# Altium integrated library Analog Devices Data Converters Digital-to-Analog Converters.IntLib: 2231 symbols (part 102 of 181)
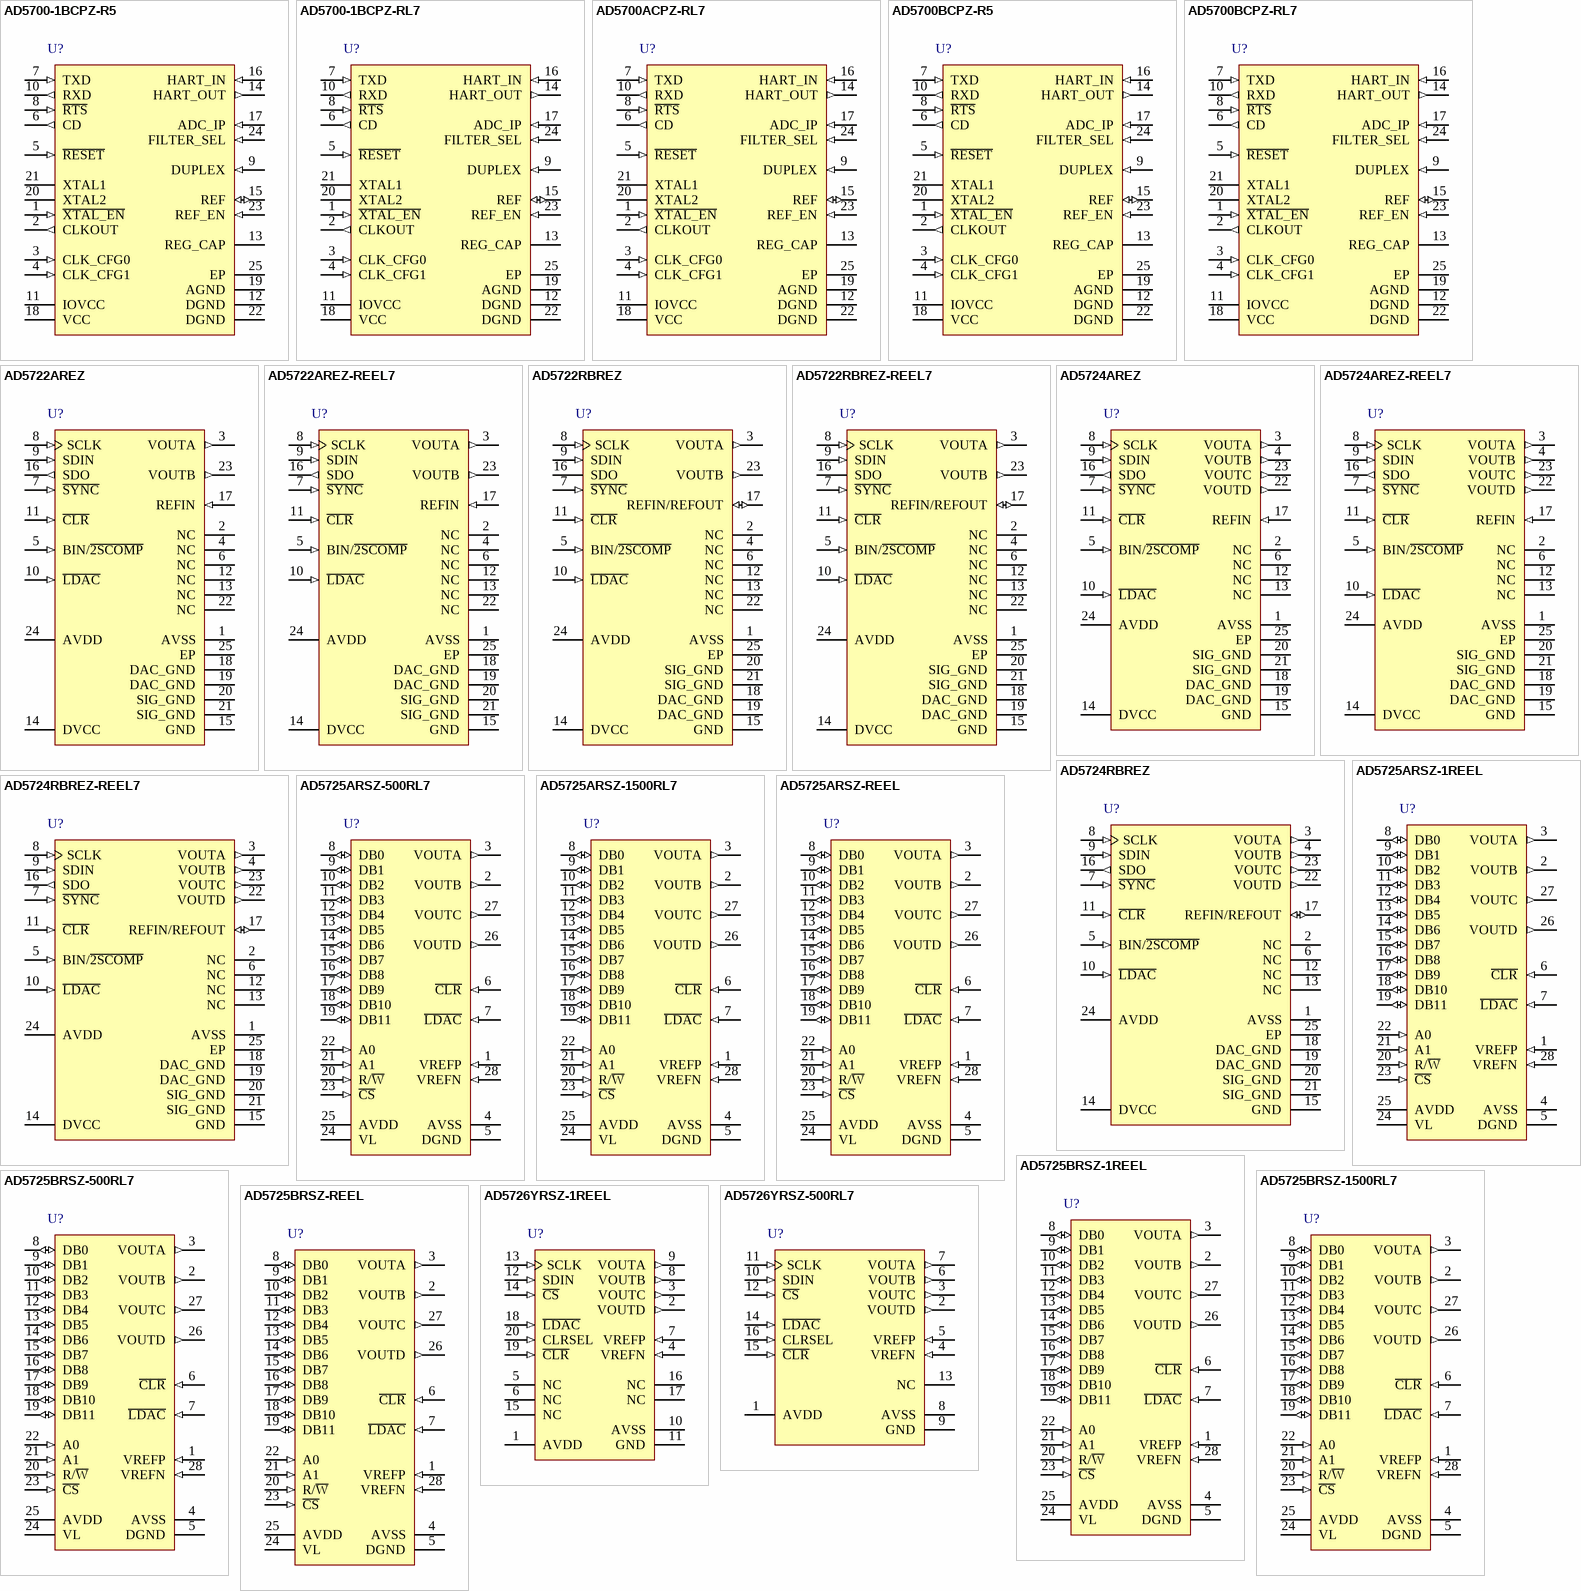
[diagram p215: symbols AD5700-1BCPZ-R5 to AD5726YRSZ-500RL7]

## AD5722AREZ-REEL7
designator U?
Dual 12-Bit Voltage Output Digital-to-Analog Converter with Serial Interface, -40 to +85 degC, RE-24, Pb-Free, Reel; Generic Part Number: AD5722; Manufacturer: Analog Devices; PartNumber: AD5722AREZ-REEL7; # DAC Outputs: 2; Max V+: 16.5V; Op Pwr Diss: 190mW; Resolution (Bits): 12; Settling Time: 10µs; Single Supply: Yes; DatasheetVersion: Rev.D; PackageVersion: 050806-A; PackageReference: RE-24; PackageDescription: 24-Lead Thin Shrink Small Outline Package, Exposed Pad [TSSOP_EP]; Supplier 1: Digi-Key; Supplier Part Number 1: AD5722AREZ-REEL7-ND; Supplier 2: Mouser; Supplier Part Number 2: 584-AD5722AREZ-R7; Packing: Reel; RoHS: Y; Mounting Technology: Surface Mount; Code_JEDEC: MO-153-ADT; ComponentLink1Description: Manufacturer URL; ComponentLink1URL: http://www.analog.com/en/index.html; ComponentLink2Description: Datasheet; ComponentLink2URL: http://www.analog.com/static/imported-files/data_sheets/AD5722_5732_5752.pdf; ComponentLink3Description: Package Specification; ComponentLink3URL: http://www.analog.com/static/imported-files/packages/PKG_PDF/TSSOP_EP(RE)/RE_24.pdf; ComponentLink4Description: Product URL; ComponentLink4URL: http://www.analog.com/en/digital-to-analog-converters/da-converters/ad5722/products/product.html; ComponentLink5Description: Reference Design URL; ComponentLink5URL: http://www.analog.com/en/digital-to-analog-converters/da-converters/ad5722/products/product.html#prod_cross_sell
footprint RE-24_N (TSOP, 24-Leads, Body 7.8x4.4mm, Pitch 0.65mm, Thermal pad 5.02x3.25 mm, IPC Medium Density)
footprint RE-24_L (TSOP, 24-Leads, Body 7.8x4.4mm, Pitch 0.65mm, Thermal pad 5.02x3.25 mm, IPC High Density)
footprint RE-24_M (TSOP, 24-Leads, Body 7.8x4.4mm, Pitch 0.65mm, Thermal pad 5.02x3.25 mm, IPC Low Density)
pins: 1 AVSS (power) "Negative Analog Supply. Voltage ranges from -4.5 V to -16.5 V. This pin can be connected to 0 V if output ranges are unipolar.", 2 NC "Do not connect to these pins.", 3 VOUTA (out) "Analog Output Voltage of DAC A. The output amplifier is capable of directly driving a 2 k ohm, 4000 pF load.", 4 NC "Do not connect to these pins.", 5 BIN/~{2SCOMP} (in) "Determines the DAC coding for a bipolar output range. This pin should be hardwired to either DVCC or GND. When hardwired to DVCC, input coding is offset binary. When hardwired to GND, input coding is twos complement. (For (See Datasheet)", 6 NC "Do not connect to these pins.", 7 ~{SYNC} (in) "Active Low Input. This is the frame synchronization signal for the serial interface. While S\Y\N\C\ is low, data is transferred on the falling edge of SCLK. Data is latched on the rising edge of S\Y\N\C\.", 8 SCLK (in) "Serial Clock Input. Data is clocked into the shift register on the falling edge of SCLK. This operates at clock speeds up to 30 MHz.", 9 SDIN (in) "Serial Data Input. Data must be valid on the falling edge of SCLK.", 10 ~{LDAC} (in) "Load DAC, Logic Input. This is used to update the DAC registers and consequently, the analog outputs. When this pin is tied permanently low, the addressed DAC register is updated on the rising edge of S\Y\N\C\. If L\D\A\C\ (See Datasheet)", 11 ~{CLR} (in) "Active Low Input. Asserting this pin sets the DAC registers to zero-scale code or midscale code (user-selectable).", 12 NC "Do not connect to these pins.", 13 NC "Do not connect to these pins.", 14 DVCC (power) "Digital Supply. Voltage ranges from 2.7 V to 5.5 V.", 15 GND (power) "Ground Reference.", 16 SDO (out) "Serial Data Output. Used to clock data from the serial register in daisy-chain or readback mode. Data is clocked out on the rising edge of SCLK and is valid on the falling edge of SCLK.", 17 REFIN (in) "External Reference Voltage Input. Reference input range is 2 V to 3 V. REFIN = 2.5 V for specified performance.", 18 DAC_GND (power) "Ground Reference for the Four Digital-to-Analog Converters.", 19 DAC_GND (power) "Ground Reference for the Four Digital-to-Analog Converters.", 20 SIG_GND (power) "Ground Reference for the Four Output Amplifiers.", 21 SIG_GND (power) "Ground Reference for the Four Output Amplifiers.", 22 NC "Do not connect to these pins.", 23 VOUTB (out) "Analog Output Voltage of DAC C. The output amplifier is capable of directly driving a 2 k ohm, 4000 pF load.", 24 AVDD (power) "Positive Analog Supply. Voltage ranges from 4.5 V to 16.5 V.", 25 EP "This exposed paddle should be connected to the potential of the AVSS pin, or alternatively, it can be left electrically unconnected. It is recommended that the paddle be thermally connected to a copper plane for enhanced (See Datasheet)"

## AD5722RBREZ
designator U?
Dual 12-Bit Voltage Output Digital-to-Analog Converter with Serial Interface, -40 to +85 degC, RE-24, Pb-Free, Tube; Generic Part Number: AD5722R; Manufacturer: Analog Devices; PartNumber: AD5722RBREZ; # DAC Outputs: 2; Max V+: 16.5V; Op Pwr Diss: 190mW; Resolution (Bits): 12; Settling Time: 7.5µs; Single Supply: Yes; DatasheetVersion: Rev.D; PackageVersion: 050806-A; PackageReference: RE-24; PackageDescription: 24-Lead Thin Shrink Small Outline Package, Exposed Pad [TSSOP_EP]; Supplier 1: Digi-Key; Supplier Part Number 1: AD5722RBREZ-ND; Supplier 2: Farnell; Supplier Part Number 2: 2312755; Supplier 3: Newark; Supplier Part Number 3: 34P3164; Supplier 4: Mouser; Supplier Part Number 4: 584-AD5722RBREZ; Packing: Tube; RoHS: Y; Mounting Technology: Surface Mount; Code_JEDEC: MO-153-ADT; ComponentLink1Description: Manufacturer URL; ComponentLink1URL: http://www.analog.com/en/index.html; ComponentLink2Description: Datasheet; ComponentLink2URL: http://www.analog.com/static/imported-files/data_sheets/AD5722R_5732R_5752R.pdf; ComponentLink3Description: Package Specification; ComponentLink3URL: http://www.analog.com/static/imported-files/packages/PKG_PDF/TSSOP_EP(RE)/RE_24.pdf; ComponentLink4Description: Product URL; ComponentLink4URL: http://www.analog.com/en/digital-to-analog-converters/da-converters/ad5722r/products/product.html; ComponentLink5Description: Reference Design URL; ComponentLink5URL: http://www.analog.com/en/digital-to-analog-converters/da-converters/ad5722r/products/product.html#prod_cross_sell
footprint RE-24_N (TSOP, 24-Leads, Body 7.8x4.4mm, Pitch 0.65mm, Thermal pad 5.02x3.25 mm, IPC Medium Density)
footprint RE-24_L (TSOP, 24-Leads, Body 7.8x4.4mm, Pitch 0.65mm, Thermal pad 5.02x3.25 mm, IPC High Density)
footprint RE-24_M (TSOP, 24-Leads, Body 7.8x4.4mm, Pitch 0.65mm, Thermal pad 5.02x3.25 mm, IPC Low Density)
pins: 1 AVSS (power) "Negative Analog Supply. Voltage ranges from -4.5 V to -16.5 V. This pin can be connected to 0 V if output ranges are unipolar.", 2 NC "Do not connect to these pins.", 3 VOUTA (out) "Analog Output Voltage of DAC A. The output amplifier is capable of directly driving a 2 kohm, 4000 pF load.", 4 NC "Do not connect to these pins.", 5 BIN/~{2SCOMP} (in) "Determines the DAC coding for a bipolar output range. This pin should be hardwired to either DVCC or GND. When hardwired to DVCC, input coding is offset binary. When hardwired to GND, input coding is twos complement. (For (See Datasheet)", 6 NC "Do not connect to these pins.", 7 ~{SYNC} (in) "Active Low Input. This is the frame S\Y\N\C\hronization signal for the serial interface. While S\Y\N\C\ is low, data is transferred on the falling edge of SCLK. Data is latched on the rising edge of S\Y\N\C\.", 8 SCLK (in) "Serial Clock Input. Data is clocked into the shift register on the falling edge of SCLK. This operates at clock speeds up to 30 MHz.", 9 SDIN (in) "Serial Data Input. Data must be valid on the falling edge of SCLK.", 10 ~{LDAC} (in) "Load DAC, Logic Input. This is used to update the DAC registers and, consequently, the analog output. When this pin is tied permanently low, the addressed DAC register is updated on the rising edge of S\Y\N\C\. If L\D\A\C\ (See Datasheet)", 11 ~{CLR} (in) "Active Low Input. Asserting this pin sets the DAC registers to zero-scale code or midscale code (user selectable).", 12 NC "Do not connect to these pins.", 13 NC "Do not connect to these pins.", 14 DVCC (power) "Digital Supply. Voltage ranges from 2.7 V to 5.5 V.", 15 GND (power) "Ground Reference.", 16 SDO (hiz) "Serial Data Output. Used to clock data from the serial register in daisy-chain or readback mode. Data is clocked out on the rising edge of SCLK and is valid on the falling edge of SCLK.", 17 REFIN/REFOUT (io) "External Reference Voltage Input and Internal Reference Voltage Output. Reference input range is 2 V to 3 V. REFIN = 2.5 V for specified performance. REFOUT = 2.5 V +/- 2 mV.", 18 DAC_GND (power) "Ground Reference for the Four Digital-to-Analog Converters.", 19 DAC_GND (power) "Ground Reference for the Four Digital-to-Analog Converters.", 20 SIG_GND (power) "Ground Reference for the Four Output Amplifiers.", 21 SIG_GND (power) "Ground Reference for the Four Output Amplifiers.", 22 NC "Do not connect to these pins.", 23 VOUTB (out) "Analog Output Voltage of DAC B. The output amplifier is capable of directly driving a 2 kohm, 4000 pF load.", 24 AVDD (power) "Positive Analog Supply. Voltage ranges from 4.5 V to 16.5 V.", 25 EP (power) "This exposed paddle should be connected to the potential of the AVSS pin, or alternatively, it can be left electrically unconnected. It is recommended that the paddle be thermally connected to a copper plane for enhanced (See Datasheet)"

## AD5722RBREZ-REEL7
designator U?
Dual 12-Bit Voltage Output Digital-to-Analog Converter with Serial Interface, -40 to +85 degC, RE-24, Pb-Free, Reel; Generic Part Number: AD5722R; Manufacturer: Analog Devices; PartNumber: AD5722RBREZ-REEL7; # DAC Outputs: 2; Max V+: 16.5V; Op Pwr Diss: 190mW; Resolution (Bits): 12; Settling Time: 7.5µs; Single Supply: Yes; DatasheetVersion: Rev.D; PackageVersion: 050806-A; PackageReference: RE-24; PackageDescription: 24-Lead Thin Shrink Small Outline Package, Exposed Pad [TSSOP_EP]; Supplier 1: Digi-Key; Supplier Part Number 1: AD5722RBREZ-REEL7-ND; Supplier 2: Mouser; Supplier Part Number 2: 584-AD5722RBREZ-R7; Packing: Reel; RoHS: Y; Mounting Technology: Surface Mount; Code_JEDEC: MO-153-ADT; ComponentLink1Description: Manufacturer URL; ComponentLink1URL: http://www.analog.com/en/index.html; ComponentLink2Description: Datasheet; ComponentLink2URL: http://www.analog.com/static/imported-files/data_sheets/AD5722R_5732R_5752R.pdf; ComponentLink3Description: Package Specification; ComponentLink3URL: http://www.analog.com/static/imported-files/packages/PKG_PDF/TSSOP_EP(RE)/RE_24.pdf; ComponentLink4Description: Product URL; ComponentLink4URL: http://www.analog.com/en/digital-to-analog-converters/da-converters/ad5722r/products/product.html; ComponentLink5Description: Reference Design URL; ComponentLink5URL: http://www.analog.com/en/digital-to-analog-converters/da-converters/ad5722r/products/product.html#prod_cross_sell
footprint RE-24_N (TSOP, 24-Leads, Body 7.8x4.4mm, Pitch 0.65mm, Thermal pad 5.02x3.25 mm, IPC Medium Density)
footprint RE-24_L (TSOP, 24-Leads, Body 7.8x4.4mm, Pitch 0.65mm, Thermal pad 5.02x3.25 mm, IPC High Density)
footprint RE-24_M (TSOP, 24-Leads, Body 7.8x4.4mm, Pitch 0.65mm, Thermal pad 5.02x3.25 mm, IPC Low Density)
pins: 1 AVSS (power) "Negative Analog Supply. Voltage ranges from -4.5 V to -16.5 V. This pin can be connected to 0 V if output ranges are unipolar.", 2 NC "Do not connect to these pins.", 3 VOUTA (out) "Analog Output Voltage of DAC A. The output amplifier is capable of directly driving a 2 kohm, 4000 pF load.", 4 NC "Do not connect to these pins.", 5 BIN/~{2SCOMP} (in) "Determines the DAC coding for a bipolar output range. This pin should be hardwired to either DVCC or GND. When hardwired to DVCC, input coding is offset binary. When hardwired to GND, input coding is twos complement. (For (See Datasheet)", 6 NC "Do not connect to these pins.", 7 ~{SYNC} (in) "Active Low Input. This is the frame S\Y\N\C\hronization signal for the serial interface. While S\Y\N\C\ is low, data is transferred on the falling edge of SCLK. Data is latched on the rising edge of S\Y\N\C\.", 8 SCLK (in) "Serial Clock Input. Data is clocked into the shift register on the falling edge of SCLK. This operates at clock speeds up to 30 MHz.", 9 SDIN (in) "Serial Data Input. Data must be valid on the falling edge of SCLK.", 10 ~{LDAC} (in) "Load DAC, Logic Input. This is used to update the DAC registers and, consequently, the analog output. When this pin is tied permanently low, the addressed DAC register is updated on the rising edge of S\Y\N\C\. If L\D\A\C\ (See Datasheet)", 11 ~{CLR} (in) "Active Low Input. Asserting this pin sets the DAC registers to zero-scale code or midscale code (user selectable).", 12 NC "Do not connect to these pins.", 13 NC "Do not connect to these pins.", 14 DVCC (power) "Digital Supply. Voltage ranges from 2.7 V to 5.5 V.", 15 GND (power) "Ground Reference.", 16 SDO (hiz) "Serial Data Output. Used to clock data from the serial register in daisy-chain or readback mode. Data is clocked out on the rising edge of SCLK and is valid on the falling edge of SCLK.", 17 REFIN/REFOUT (io) "External Reference Voltage Input and Internal Reference Voltage Output. Reference input range is 2 V to 3 V. REFIN = 2.5 V for specified performance. REFOUT = 2.5 V +/- 2 mV.", 18 DAC_GND (power) "Ground Reference for the Four Digital-to-Analog Converters.", 19 DAC_GND (power) "Ground Reference for the Four Digital-to-Analog Converters.", 20 SIG_GND (power) "Ground Reference for the Four Output Amplifiers.", 21 SIG_GND (power) "Ground Reference for the Four Output Amplifiers.", 22 NC "Do not connect to these pins.", 23 VOUTB (out) "Analog Output Voltage of DAC B. The output amplifier is capable of directly driving a 2 kohm, 4000 pF load.", 24 AVDD (power) "Positive Analog Supply. Voltage ranges from 4.5 V to 16.5 V.", 25 EP (power) "This exposed paddle should be connected to the potential of the AVSS pin, or alternatively, it can be left electrically unconnected. It is recommended that the paddle be thermally connected to a copper plane for enhanced (See Datasheet)"

## AD5724AREZ
designator U?
Quad 12-Bit Unipolar / Bipolar Voltage Output Digital-to-Analog Converter with Serial Interface, -40 to +85 degC, RE-24, Pb-Free, Tube; Generic Part Number: AD5724; Manufacturer: Analog Devices; PartNumber: AD5724AREZ; # DAC Outputs: 4; Max V+: 16.5V; Op Pwr Diss: 310mW; Resolution (Bits): 12; Settling Time: 8.5µs; Single Supply: Yes; DatasheetVersion: Rev.D; PackageVersion: 050806-A; PackageReference: RE-24; PackageDescription: 24-Lead Thin Shrink Small Outline Package, Exposed Pad [TSSOP_EP]; Supplier 1: Digi-Key; Supplier Part Number 1: AD5724AREZ-ND; Supplier 2: Farnell; Supplier Part Number 2: 2305678; Supplier 3: Newark; Supplier Part Number 3: 07P8934; Supplier 4: Mouser; Supplier Part Number 4: 584-AD5724AREZ; Packing: Tube; RoHS: Y; Mounting Technology: Surface Mount; Code_JEDEC: MO-153-ADT; ComponentLink1Description: Manufacturer URL; ComponentLink1URL: http://www.analog.com/en/index.html; ComponentLink2Description: Datasheet; ComponentLink2URL: http://www.analog.com/static/imported-files/data_sheets/AD5724_5734_5754.pdf; ComponentLink3Description: Package Specification; ComponentLink3URL: http://www.analog.com/static/imported-files/packages/PKG_PDF/TSSOP_EP(RE)/RE_24.pdf; ComponentLink4Description: Product URL; ComponentLink4URL: http://www.analog.com/en/digital-to-analog-converters/da-converters/ad5724/products/product.html; ComponentLink5Description: Reference Design URL; ComponentLink5URL: http://www.analog.com/en/digital-to-analog-converters/da-converters/ad5724/products/product.html#prod_cross_sell
footprint RE-24_N (TSOP, 24-Leads, Body 7.8x4.4mm, Pitch 0.65mm, Thermal pad 5.02x3.25 mm, IPC Medium Density)
footprint RE-24_L (TSOP, 24-Leads, Body 7.8x4.4mm, Pitch 0.65mm, Thermal pad 5.02x3.25 mm, IPC High Density)
footprint RE-24_M (TSOP, 24-Leads, Body 7.8x4.4mm, Pitch 0.65mm, Thermal pad 5.02x3.25 mm, IPC Low Density)
pins: 1 AVSS (power) "Negative Analog Supply. Voltage ranges from -4.5 V to -16.5 V. This pin can be connected to 0 V if output ranges are unipolar.", 2 NC "Do not connect to these pins.", 3 VOUTA (out) "Analog Output Voltage of DAC A. The output amplifier is capable of directly driving a 2 kohm, 4000 pF load.", 4 VOUTB (out) "Analog Output Voltage of DAC B. The output amplifier is capable of directly driving a 2 kohm, 4000 pF load.", 5 BIN/~{2SCOMP} (in) "Determines the DAC coding for a bipolar output range. This pin should be hardwired to either DVCC or GND. When hardwired to DVCC, input coding is offset binary. When hardwired to GND, input coding is twos complement. (For (See Datasheet)", 6 NC "Do not connect to these pins.", 7 ~{SYNC} (in) "Active Low Input. This is the frame synchronization signal for the serial interface. While S\Y\N\C\ is low, data is transferred on the falling edge of SCLK. Data is latched on the rising edge of S\Y\N\C\.", 8 SCLK (in) "Serial Clock Input. Data is clocked into the shift register on the falling edge of SCLK. This operates at clock speeds up to 30 MHz.", 9 SDIN (in) "Serial Data Input. Data must be valid on the falling edge of SCLK.", 10 ~{LDAC} (in) "Load DAC, Logic Input. This is used to update the DAC registers and consequently, the analog outputs. When this pin is tied permanently low, the addressed DAC register is updated on the rising edge of S\Y\N\C\. If L\D\A\C\ (See Datasheet)", 11 ~{CLR} (in) "Active Low Input. Asserting this pin sets the DAC registers to zero-scale code or midscale code (user-selectable).", 12 NC "Do not connect to these pins.", 13 NC "Do not connect to these pins.", 14 DVCC (power) "Digital Supply. Voltage ranges from 2.7 V to 5.5 V.", 15 GND (power) "Ground Reference.", 16 SDO (out) "Serial Data Output. Used to clock data from the serial register in daisy-chain or readback mode. Data is clocked out on the rising edge of SCLK and is valid on the falling edge of SCLK.", 17 REFIN (in) "External Reference Voltage Input. Reference input range is 2 V to 3 V. REFIN = 2.5 V for specified performance.", 18 DAC_GND (power) "Ground Reference for the Four Digital-to-Analog Converters.", 19 DAC_GND (power) "Ground Reference for the Four Digital-to-Analog Converters.", 20 SIG_GND (power) "Ground Reference for the Four Output Amplifiers.", 21 SIG_GND (power) "Ground Reference for the Four Output Amplifiers.", 22 VOUTD (out) "Analog Output Voltage of DAC D. The output amplifier is capable of directly driving a 2 kohm, 4000 pF load.", 23 VOUTC (out) "Analog Output Voltage of DAC C. The output amplifier is capable of directly driving a 2 kohm, 4000 pF load.", 24 AVDD (power) "Positive Analog Supply. Voltage ranges from 4.5 V to 16.5 V.", 25 EP (power) "This exposed paddle should be connected to the potential of the AVSS pin, or alternatively, it can be left electrically unconnected. It is recommended that the paddle be thermally connected to a copper plane for enhanced (See Datasheet)"

## AD5724AREZ-REEL7
designator U?
Quad 12-Bit Unipolar / Bipolar Voltage Output Digital-to-Analog Converter with Serial Interface, -40 to +85 degC, RE-24, Pb-Free, Reel; Generic Part Number: AD5724; Manufacturer: Analog Devices; PartNumber: AD5724AREZ-REEL7; # DAC Outputs: 4; Max V+: 16.5V; Op Pwr Diss: 310mW; Resolution (Bits): 12; Settling Time: 8.5µs; Single Supply: Yes; DatasheetVersion: Rev.D; PackageVersion: 050806-A; PackageReference: RE-24; PackageDescription: 24-Lead Thin Shrink Small Outline Package, Exposed Pad [TSSOP_EP]; Supplier 1: Digi-Key; Supplier Part Number 1: AD5724AREZ-REEL7-ND; Supplier 2: Newark; Supplier Part Number 2: 07P8935; Supplier 3: Mouser; Supplier Part Number 3: 584-AD5724AREZ-R7; Packing: Reel; RoHS: Y; Mounting Technology: Surface Mount; Code_JEDEC: MO-153-ADT; ComponentLink1Description: Manufacturer URL; ComponentLink1URL: http://www.analog.com/en/index.html; ComponentLink2Description: Datasheet; ComponentLink2URL: http://www.analog.com/static/imported-files/data_sheets/AD5724_5734_5754.pdf; ComponentLink3Description: Package Specification; ComponentLink3URL: http://www.analog.com/static/imported-files/packages/PKG_PDF/TSSOP_EP(RE)/RE_24.pdf; ComponentLink4Description: Product URL; ComponentLink4URL: http://www.analog.com/en/digital-to-analog-converters/da-converters/ad5724/products/product.html; ComponentLink5Description: Reference Design URL; ComponentLink5URL: http://www.analog.com/en/digital-to-analog-converters/da-converters/ad5724/products/product.html#prod_cross_sell
footprint RE-24_N (TSOP, 24-Leads, Body 7.8x4.4mm, Pitch 0.65mm, Thermal pad 5.02x3.25 mm, IPC Medium Density)
footprint RE-24_L (TSOP, 24-Leads, Body 7.8x4.4mm, Pitch 0.65mm, Thermal pad 5.02x3.25 mm, IPC High Density)
footprint RE-24_M (TSOP, 24-Leads, Body 7.8x4.4mm, Pitch 0.65mm, Thermal pad 5.02x3.25 mm, IPC Low Density)
pins: 1 AVSS (power) "Negative Analog Supply. Voltage ranges from -4.5 V to -16.5 V. This pin can be connected to 0 V if output ranges are unipolar.", 2 NC "Do not connect to these pins.", 3 VOUTA (out) "Analog Output Voltage of DAC A. The output amplifier is capable of directly driving a 2 kohm, 4000 pF load.", 4 VOUTB (out) "Analog Output Voltage of DAC B. The output amplifier is capable of directly driving a 2 kohm, 4000 pF load.", 5 BIN/~{2SCOMP} (in) "Determines the DAC coding for a bipolar output range. This pin should be hardwired to either DVCC or GND. When hardwired to DVCC, input coding is offset binary. When hardwired to GND, input coding is twos complement. (For (See Datasheet)", 6 NC "Do not connect to these pins.", 7 ~{SYNC} (in) "Active Low Input. This is the frame synchronization signal for the serial interface. While S\Y\N\C\ is low, data is transferred on the falling edge of SCLK. Data is latched on the rising edge of S\Y\N\C\.", 8 SCLK (in) "Serial Clock Input. Data is clocked into the shift register on the falling edge of SCLK. This operates at clock speeds up to 30 MHz.", 9 SDIN (in) "Serial Data Input. Data must be valid on the falling edge of SCLK.", 10 ~{LDAC} (in) "Load DAC, Logic Input. This is used to update the DAC registers and consequently, the analog outputs. When this pin is tied permanently low, the addressed DAC register is updated on the rising edge of S\Y\N\C\. If L\D\A\C\ (See Datasheet)", 11 ~{CLR} (in) "Active Low Input. Asserting this pin sets the DAC registers to zero-scale code or midscale code (user-selectable).", 12 NC "Do not connect to these pins.", 13 NC "Do not connect to these pins.", 14 DVCC (power) "Digital Supply. Voltage ranges from 2.7 V to 5.5 V.", 15 GND (power) "Ground Reference.", 16 SDO (out) "Serial Data Output. Used to clock data from the serial register in daisy-chain or readback mode. Data is clocked out on the rising edge of SCLK and is valid on the falling edge of SCLK.", 17 REFIN (in) "External Reference Voltage Input. Reference input range is 2 V to 3 V. REFIN = 2.5 V for specified performance.", 18 DAC_GND (power) "Ground Reference for the Four Digital-to-Analog Converters.", 19 DAC_GND (power) "Ground Reference for the Four Digital-to-Analog Converters.", 20 SIG_GND (power) "Ground Reference for the Four Output Amplifiers.", 21 SIG_GND (power) "Ground Reference for the Four Output Amplifiers.", 22 VOUTD (out) "Analog Output Voltage of DAC D. The output amplifier is capable of directly driving a 2 kohm, 4000 pF load.", 23 VOUTC (out) "Analog Output Voltage of DAC C. The output amplifier is capable of directly driving a 2 kohm, 4000 pF load.", 24 AVDD (power) "Positive Analog Supply. Voltage ranges from 4.5 V to 16.5 V.", 25 EP (power) "This exposed paddle should be connected to the potential of the AVSS pin, or alternatively, it can be left electrically unconnected. It is recommended that the paddle be thermally connected to a copper plane for enhanced (See Datasheet)"

## AD5724RBREZ
designator U?
Quad 12-Bit Unipolar / Bipolar Voltage Output Digital-to-Analog Converter with Serial Interface, -40 to +85 degC, RE-24, Pb-Free, Tube; Generic Part Number: AD5724R; Manufacturer: Analog Devices; PartNumber: AD5724RBREZ; # DAC Outputs: 4; Max V+: 16.5V; Op Pwr Diss: 310mW; Resolution (Bits): 12; Settling Time: 10µs; Single Supply: Yes; DatasheetVersion: Rev.E; PackageVersion: 050806-A; PackageReference: RE-24; PackageDescription: 24-Lead Thin Shrink Small Outline Package, Exposed Pad [TSSOP_EP]; Supplier 1: Digi-Key; Supplier Part Number 1: AD5724RBREZ-ND; Supplier 2: Farnell; Supplier Part Number 2: 1786047; Supplier 3: Newark; Supplier Part Number 3: 05R6579; Supplier 4: Mouser; Supplier Part Number 4: 584-AD5724RBREZ; Packing: Tube; RoHS: Y; Mounting Technology: Surface Mount; Code_JEDEC: MO-153-ADT; ComponentLink1Description: Manufacturer URL; ComponentLink1URL: http://www.analog.com/en/index.html; ComponentLink2Description: Datasheet; ComponentLink2URL: http://www.analog.com/static/imported-files/data_sheets/AD5724R_5734R_5754R.pdf; ComponentLink3Description: Package Specification; ComponentLink3URL: http://www.analog.com/static/imported-files/packages/PKG_PDF/TSSOP_EP(RE)/RE_24.pdf; ComponentLink4Description: Product URL; ComponentLink4URL: http://www.analog.com/en/digital-to-analog-converters/da-converters/ad5724r/products/product.html; ComponentLink5Description: Reference Design URL; ComponentLink5URL: http://www.analog.com/en/digital-to-analog-converters/da-converters/ad5724r/products/product.html#prod_cross_sell
footprint RE-24_N (TSOP, 24-Leads, Body 7.8x4.4mm, Pitch 0.65mm, Thermal pad 5.02x3.25 mm, IPC Medium Density)
footprint RE-24_L (TSOP, 24-Leads, Body 7.8x4.4mm, Pitch 0.65mm, Thermal pad 5.02x3.25 mm, IPC High Density)
footprint RE-24_M (TSOP, 24-Leads, Body 7.8x4.4mm, Pitch 0.65mm, Thermal pad 5.02x3.25 mm, IPC Low Density)
pins: 1 AVSS (power) "Negative Analog Supply Pin. Voltage range is from -4.5 V to -16.5 V. This pin can be connected to 0 V if output ranges are unipolar.", 2 NC "No Connect. Do not connect to these pins.", 3 VOUTA (out) "Analog Output Voltage of DAC A. The output amplifier is capable of directly driving a 2 kohm, 4000 pF load.", 4 VOUTB (out) "Analog Output Voltage of DAC B. The output amplifier is capable of directly driving a 2 kohm, 4000 pF load.", 5 BIN/~{2SCOMP} (in) "This pin determines the DAC coding for a bipolar output range. This pin should be hardwired to either DVCC or GND. When hardwired to DVCC, input coding is offset binary. When hardwired to GND, input coding is twos complement.(See Datasheet)", 6 NC "No Connect. Do not connect to these pins.", 7 ~{SYNC} (in) "Active Low Input. This is the frame S\Y\N\C\hronization signal for the serial interface. While S\Y\N\C\ is low, data is transferred on the falling edge of SCLK. Data is latched on the rising edge of S\Y\N\C\.", 8 SCLK (in) "Serial Clock Input. Data is clocked into the shift register on the falling edge of SCLK. This operates at clock speeds up to 30 MHz.", 9 SDIN (in) "Serial Data Input. Data must be valid on the falling edge of SCLK.", 10 ~{LDAC} (in) "Load DAC, Logic Input. This is used to update the DAC registers and, consequently, the analog output. When tied permanently low, the addressed DAC register is updated on the rising edge of S\Y\N\C\. If L\D\A\C\ is held high (See Datasheet)", 11 ~{CLR} (in) "Active Low Input. Asserting this pin sets the DAC registers to zero-scale code or midscale code (user selectable).", 12 NC "No Connect. Do not connect to these pins.", 13 NC "No Connect. Do not connect to these pins.", 14 DVCC (power) "Digital Supply Pin. Voltage range is from 2.7 V to 5.5 V.", 15 GND (power) "Ground Reference Pin.", 16 SDO (out) "Serial Data Output. Used to clock data from the serial register in daisy-chain or readback mode. Data is clocked out on the rising edge of SCLK and is valid on the falling edge of SCLK.", 17 REFIN/REFOUT (io) "External Reference Voltage Input and Internal Reference Voltage Output. Reference input range is 2 V to 3 V. REFIN = 2.5 V for specified performance. REFOUT = 2.5 V +/- 2 mV 25degreesC.", 18 DAC_GND (power) "Ground reference pins for the four digital-to-analog converters.", 19 DAC_GND (power) "Ground reference pins for the four digital-to-analog converters.", 20 SIG_GND (power) "Ground reference pins for the four output amplifiers.", 21 SIG_GND (power) "Ground reference pins for the four output amplifiers.", 22 VOUTD (out) "Analog Output Voltage of DAC D. The output amplifier is capable of directly driving a 2 kohm, 4000 pF load.", 23 VOUTC (out) "Analog Output Voltage of DAC C. The output amplifier is capable of directly driving a 2 kohm, 4000 pF load.", 24 AVDD (power) "Positive Analog Supply Pin. Voltage range is from 4.5 V to 16.5 V.", 25 EP (power) "The exposed paddle should be connected to the potential of the AVSS pin or, alternatively, it can be left electrically unconnected. It is recommended that the paddle be thermally connected to a copper plane for enhanced (See Datasheet)"

## AD5724RBREZ-REEL7
designator U?
Quad 12-Bit Unipolar / Bipolar Voltage Output Digital-to-Analog Converter with Serial Interface, -40 to +85 degC, RE-24, Pb-Free, Reel; Generic Part Number: AD5724R; Manufacturer: Analog Devices; PartNumber: AD5724RBREZ-REEL7; # DAC Outputs: 4; Max V+: 16.5V; Op Pwr Diss: 310mW; Resolution (Bits): 12; Settling Time: 10µs; Single Supply: Yes; DatasheetVersion: Rev.E; PackageVersion: 050806-A; PackageReference: RE-24; PackageDescription: 24-Lead Thin Shrink Small Outline Package, Exposed Pad [TSSOP_EP]; Supplier 1: Digi-Key; Supplier Part Number 1: AD5724RBREZ-REEL7-ND; Supplier 2: Mouser; Supplier Part Number 2: 584-AD5724RBREZ-R7; Packing: Reel; RoHS: Y; Mounting Technology: Surface Mount; Code_JEDEC: MO-153-ADT; ComponentLink1Description: Manufacturer URL; ComponentLink1URL: http://www.analog.com/en/index.html; ComponentLink2Description: Datasheet; ComponentLink2URL: http://www.analog.com/static/imported-files/data_sheets/AD5724R_5734R_5754R.pdf; ComponentLink3Description: Package Specification; ComponentLink3URL: http://www.analog.com/static/imported-files/packages/PKG_PDF/TSSOP_EP(RE)/RE_24.pdf; ComponentLink4Description: Product URL; ComponentLink4URL: http://www.analog.com/en/digital-to-analog-converters/da-converters/ad5724r/products/product.html; ComponentLink5Description: Reference Design URL; ComponentLink5URL: http://www.analog.com/en/digital-to-analog-converters/da-converters/ad5724r/products/product.html#prod_cross_sell
footprint RE-24_N (TSOP, 24-Leads, Body 7.8x4.4mm, Pitch 0.65mm, Thermal pad 5.02x3.25 mm, IPC Medium Density)
footprint RE-24_L (TSOP, 24-Leads, Body 7.8x4.4mm, Pitch 0.65mm, Thermal pad 5.02x3.25 mm, IPC High Density)
footprint RE-24_M (TSOP, 24-Leads, Body 7.8x4.4mm, Pitch 0.65mm, Thermal pad 5.02x3.25 mm, IPC Low Density)
pins: 1 AVSS (power) "Negative Analog Supply Pin. Voltage range is from -4.5 V to -16.5 V. This pin can be connected to 0 V if output ranges are unipolar.", 2 NC "No Connect. Do not connect to these pins.", 3 VOUTA (out) "Analog Output Voltage of DAC A. The output amplifier is capable of directly driving a 2 kohm, 4000 pF load.", 4 VOUTB (out) "Analog Output Voltage of DAC B. The output amplifier is capable of directly driving a 2 kohm, 4000 pF load.", 5 BIN/~{2SCOMP} (in) "This pin determines the DAC coding for a bipolar output range. This pin should be hardwired to either DVCC or GND. When hardwired to DVCC, input coding is offset binary. When hardwired to GND, input coding is twos complement.(See Datasheet)", 6 NC "No Connect. Do not connect to these pins.", 7 ~{SYNC} (in) "Active Low Input. This is the frame S\Y\N\C\hronization signal for the serial interface. While S\Y\N\C\ is low, data is transferred on the falling edge of SCLK. Data is latched on the rising edge of S\Y\N\C\.", 8 SCLK (in) "Serial Clock Input. Data is clocked into the shift register on the falling edge of SCLK. This operates at clock speeds up to 30 MHz.", 9 SDIN (in) "Serial Data Input. Data must be valid on the falling edge of SCLK.", 10 ~{LDAC} (in) "Load DAC, Logic Input. This is used to update the DAC registers and, consequently, the analog output. When tied permanently low, the addressed DAC register is updated on the rising edge of S\Y\N\C\. If L\D\A\C\ is held high (See Datasheet)", 11 ~{CLR} (in) "Active Low Input. Asserting this pin sets the DAC registers to zero-scale code or midscale code (user selectable).", 12 NC "No Connect. Do not connect to these pins.", 13 NC "No Connect. Do not connect to these pins.", 14 DVCC (power) "Digital Supply Pin. Voltage range is from 2.7 V to 5.5 V.", 15 GND (power) "Ground Reference Pin.", 16 SDO (out) "Serial Data Output. Used to clock data from the serial register in daisy-chain or readback mode. Data is clocked out on the rising edge of SCLK and is valid on the falling edge of SCLK.", 17 REFIN/REFOUT (io) "External Reference Voltage Input and Internal Reference Voltage Output. Reference input range is 2 V to 3 V. REFIN = 2.5 V for specified performance. REFOUT = 2.5 V +/- 2 mV 25degreesC.", 18 DAC_GND (power) "Ground reference pins for the four digital-to-analog converters.", 19 DAC_GND (power) "Ground reference pins for the four digital-to-analog converters.", 20 SIG_GND (power) "Ground reference pins for the four output amplifiers.", 21 SIG_GND (power) "Ground reference pins for the four output amplifiers.", 22 VOUTD (out) "Analog Output Voltage of DAC D. The output amplifier is capable of directly driving a 2 kohm, 4000 pF load.", 23 VOUTC (out) "Analog Output Voltage of DAC C. The output amplifier is capable of directly driving a 2 kohm, 4000 pF load.", 24 AVDD (power) "Positive Analog Supply Pin. Voltage range is from 4.5 V to 16.5 V.", 25 EP (power) "The exposed paddle should be connected to the potential of the AVSS pin or, alternatively, it can be left electrically unconnected. It is recommended that the paddle be thermally connected to a copper plane for enhanced (See Datasheet)"

## AD5725ARSZ-1REEL
designator U?
12-Bit Voltage Output Digital-to-Analog Converter with Parallel Interface, -40 to +85 degC, RS-28, Pb-Free, Reel; Generic Part Number: AD5725; Manufacturer: Analog Devices; PartNumber: AD5725ARSZ-1REEL; # DAC Outputs: 4; Max V+: 15V; Op Pwr Diss: 270mW; Resolution (Bits): 12; Settling Time: 7µs; Single Supply: Yes; DatasheetVersion: Rev.A; PackageVersion: 060106-A; PackageReference: RS-28; PackageDescription: 28-Lead Shrink Small Outline Package [SSOP]; Supplier 1: Digi-Key; Supplier Part Number 1: AD5725ARSZ-1REELTR-ND; Supplier 2: Digi-Key; Supplier Part Number 2: AD5725ARSZ-1REELCT-ND; Supplier 3: Digi-Key; Supplier Part Number 3: AD5725ARSZ-1REELDKR-ND; Supplier 4: Mouser; Supplier Part Number 4: 584-AD5725ARSZ-1R; Packing: Reel; RoHS: Y; Mounting Technology: Surface Mount; Code_JEDEC: MO-150-AH; ComponentLink1Description: Manufacturer URL; ComponentLink1URL: http://www.analog.com/en/index.html; ComponentLink2Description: Datasheet; ComponentLink2URL: http://www.analog.com/static/imported-files/data_sheets/AD5725.pdf; ComponentLink3Description: Package Specification; ComponentLink3URL: http://www.analog.com/static/imported-files/packages/32122249223724RS_28.pdf; ComponentLink4Description: Product URL; ComponentLink4URL: http://www.analog.com/en/digital-to-analog-converters/da-converters/ad5725/products/product.html
footprint RS-28_N (SOP, 28-Leads, Body 10.2x5.3mm, Pitch 0.65mm, IPC Medium Density)
footprint RS-28_L (SOP, 28-Leads, Body 10.2x5.3mm, Pitch 0.65mm, IPC High Density)
footprint RS-28_M (SOP, 28-Leads, Body 10.2x5.3mm, Pitch 0.65mm, IPC Low Density)
pins: 1 VREFP (in) "Positive DAC Reference Input. The voltage applied to this pin defines the full-scale output voltage. Allowable range is AVDD - 2.5 V to VREFN + 2.5 V.", 2 VOUTB (out) "Buffered Analog Output Voltage of DAC B.", 3 VOUTA (out) "Buffered Analog Output Voltage of DAC A.", 4 AVSS (power) "Negative Analog Supply Pin. Voltage ranges from 0 V to -15 V.", 5 DGND (power) "Digital Ground Pin.", 6 ~{CLR} (in) "Active Low Input. Sets input registers and DAC registers to midscale (0x800) for the AD5725.", 7 ~{LDAC} (in) "Active Low Load DAC Input.", 8 DB0 (io) "Data Bit 0 (LSB).", 9 DB1 (io) "Data Bit 1.", 10 DB2 (io) "Data Bit 2.", 11 DB3 (io) "Data Bit 3.", 12 DB4 (io) "Data Bit 4.", 13 DB5 (io) "Data Bit 5.", 14 DB6 (io) "Data Bit 6.", 15 DB7 (io) "Data Bit 7.", 16 DB8 (io) "Data Bit 8.", 17 DB9 (io) "Data Bit 9.", 18 DB10 (io) "Data Bit 10.", 19 DB11 (io) "Data Bit 11 (MSB).", 20 R/~{W} (in) "Read/Write Pin. Active low to write data to DAC; Active high to read back previous data at data bit pins with VL connected to +5 V.", 21 A1 (in) "Address Bit 1.", 22 A0 (in) "Address Bit 0.", 23 ~{CS} (in) "Active Low Chip Select Pin.", 24 VL (power) "Voltage Supply for Readback Function. Can be left open circuit if not used.", 25 AVDD (power) "Positive Analog Supply Pin. Voltage ranges from +5 V to +15 V.", 26 VOUTD (out) "Buffered Analog Output Voltage of DAC D.", 27 VOUTC (out) "Buffered Analog Output Voltage of DAC C.", 28 VREFN (in) "Negative DAC Reference Input. The voltage applied to this pin defines the zero-scale output voltage. Allowable range is AVSS to VREFP - 2.5 V."

## AD5725ARSZ-500RL7
designator U?
12-Bit Voltage Output Digital-to-Analog Converter with Parallel Interface, -40 to +85 degC, RS-28, Pb-Free, Reel; Generic Part Number: AD5725; Manufacturer: Analog Devices; PartNumber: AD5725ARSZ-500RL7; # DAC Outputs: 4; Max V+: 15V; Op Pwr Diss: 270mW; Resolution (Bits): 12; Settling Time: 7µs; Single Supply: Yes; DatasheetVersion: Rev.A; PackageVersion: 060106-A; PackageReference: RS-28; PackageDescription: 28-Lead Shrink Small Outline Package [SSOP]; Supplier 1: Digi-Key; Supplier Part Number 1: AD5725ARSZ-500RL7TR-ND; Supplier 2: Digi-Key; Supplier Part Number 2: AD5725ARSZ-500RL7CT-ND; Supplier 3: Digi-Key; Supplier Part Number 3: AD5725ARSZ-500RL7DKR-ND; Supplier 4: Newark; Supplier Part Number 4: 34M5019; Supplier 5: Mouser; Supplier Part Number 5: 584-AD5725ARSZ-500R7; Packing: Reel; RoHS: Y; Mounting Technology: Surface Mount; Code_JEDEC: MO-150-AH; ComponentLink1Description: Manufacturer URL; ComponentLink1URL: http://www.analog.com/en/index.html; ComponentLink2Description: Datasheet; ComponentLink2URL: http://www.analog.com/static/imported-files/data_sheets/AD5725.pdf; ComponentLink3Description: Package Specification; ComponentLink3URL: http://www.analog.com/static/imported-files/packages/32122249223724RS_28.pdf; ComponentLink4Description: Product URL; ComponentLink4URL: http://www.analog.com/en/digital-to-analog-converters/da-converters/ad5725/products/product.html
footprint RS-28_N (SOP, 28-Leads, Body 10.2x5.3mm, Pitch 0.65mm, IPC Medium Density)
footprint RS-28_L (SOP, 28-Leads, Body 10.2x5.3mm, Pitch 0.65mm, IPC High Density)
footprint RS-28_M (SOP, 28-Leads, Body 10.2x5.3mm, Pitch 0.65mm, IPC Low Density)
pins: 1 VREFP (in) "Positive DAC Reference Input. The voltage applied to this pin defines the full-scale output voltage. Allowable range is AVDD - 2.5 V to VREFN + 2.5 V.", 2 VOUTB (out) "Buffered Analog Output Voltage of DAC B.", 3 VOUTA (out) "Buffered Analog Output Voltage of DAC A.", 4 AVSS (power) "Negative Analog Supply Pin. Voltage ranges from 0 V to -15 V.", 5 DGND (power) "Digital Ground Pin.", 6 ~{CLR} (in) "Active Low Input. Sets input registers and DAC registers to midscale (0x800) for the AD5725.", 7 ~{LDAC} (in) "Active Low Load DAC Input.", 8 DB0 (io) "Data Bit 0 (LSB).", 9 DB1 (io) "Data Bit 1.", 10 DB2 (io) "Data Bit 2.", 11 DB3 (io) "Data Bit 3.", 12 DB4 (io) "Data Bit 4.", 13 DB5 (io) "Data Bit 5.", 14 DB6 (io) "Data Bit 6.", 15 DB7 (io) "Data Bit 7.", 16 DB8 (io) "Data Bit 8.", 17 DB9 (io) "Data Bit 9.", 18 DB10 (io) "Data Bit 10.", 19 DB11 (io) "Data Bit 11 (MSB).", 20 R/~{W} (in) "Read/Write Pin. Active low to write data to DAC; Active high to read back previous data at data bit pins with VL connected to +5 V.", 21 A1 (in) "Address Bit 1.", 22 A0 (in) "Address Bit 0.", 23 ~{CS} (in) "Active Low Chip Select Pin.", 24 VL (power) "Voltage Supply for Readback Function. Can be left open circuit if not used.", 25 AVDD (power) "Positive Analog Supply Pin. Voltage ranges from +5 V to +15 V.", 26 VOUTD (out) "Buffered Analog Output Voltage of DAC D.", 27 VOUTC (out) "Buffered Analog Output Voltage of DAC C.", 28 VREFN (in) "Negative DAC Reference Input. The voltage applied to this pin defines the zero-scale output voltage. Allowable range is AVSS to VREFP - 2.5 V."

## AD5725ARSZ-1500RL7
designator U?
12-Bit Voltage Output Digital-to-Analog Converter with Parallel Interface, -40 to +85 degC, RS-28, Pb-Free, Reel; Generic Part Number: AD5725; Manufacturer: Analog Devices; PartNumber: AD5725ARSZ-1500RL7; # DAC Outputs: 4; Max V+: 15V; Op Pwr Diss: 270mW; Resolution (Bits): 12; Settling Time: 7µs; Single Supply: Yes; DatasheetVersion: Rev.A; PackageVersion: 060106-A; PackageReference: RS-28; PackageDescription: 28-Lead Shrink Small Outline Package [SSOP]; Supplier 1: Digi-Key; Supplier Part Number 1: AD5725ARSZ-1500RL7TR-ND; Supplier 2: Digi-Key; Supplier Part Number 2: AD5725ARSZ-1500RL7CT-ND; Supplier 3: Digi-Key; Supplier Part Number 3: AD5725ARSZ-1500RL7DKR-ND; Supplier 4: Mouser; Supplier Part Number 4: 584-AD5725ARSZ1500R7; Packing: Reel; RoHS: Y; Mounting Technology: Surface Mount; Code_JEDEC: MO-150-AH; ComponentLink1Description: Manufacturer URL; ComponentLink1URL: http://www.analog.com/en/index.html; ComponentLink2Description: Datasheet; ComponentLink2URL: http://www.analog.com/static/imported-files/data_sheets/AD5725.pdf; ComponentLink3Description: Package Specification; ComponentLink3URL: http://www.analog.com/static/imported-files/packages/32122249223724RS_28.pdf; ComponentLink4Description: Product URL; ComponentLink4URL: http://www.analog.com/en/digital-to-analog-converters/da-converters/ad5725/products/product.html
footprint RS-28_N (SOP, 28-Leads, Body 10.2x5.3mm, Pitch 0.65mm, IPC Medium Density)
footprint RS-28_L (SOP, 28-Leads, Body 10.2x5.3mm, Pitch 0.65mm, IPC High Density)
footprint RS-28_M (SOP, 28-Leads, Body 10.2x5.3mm, Pitch 0.65mm, IPC Low Density)
pins: 1 VREFP (in) "Positive DAC Reference Input. The voltage applied to this pin defines the full-scale output voltage. Allowable range is AVDD - 2.5 V to VREFN + 2.5 V.", 2 VOUTB (out) "Buffered Analog Output Voltage of DAC B.", 3 VOUTA (out) "Buffered Analog Output Voltage of DAC A.", 4 AVSS (power) "Negative Analog Supply Pin. Voltage ranges from 0 V to -15 V.", 5 DGND (power) "Digital Ground Pin.", 6 ~{CLR} (in) "Active Low Input. Sets input registers and DAC registers to midscale (0x800) for the AD5725.", 7 ~{LDAC} (in) "Active Low Load DAC Input.", 8 DB0 (io) "Data Bit 0 (LSB).", 9 DB1 (io) "Data Bit 1.", 10 DB2 (io) "Data Bit 2.", 11 DB3 (io) "Data Bit 3.", 12 DB4 (io) "Data Bit 4.", 13 DB5 (io) "Data Bit 5.", 14 DB6 (io) "Data Bit 6.", 15 DB7 (io) "Data Bit 7.", 16 DB8 (io) "Data Bit 8.", 17 DB9 (io) "Data Bit 9.", 18 DB10 (io) "Data Bit 10.", 19 DB11 (io) "Data Bit 11 (MSB).", 20 R/~{W} (in) "Read/Write Pin. Active low to write data to DAC; Active high to read back previous data at data bit pins with VL connected to +5 V.", 21 A1 (in) "Address Bit 1.", 22 A0 (in) "Address Bit 0.", 23 ~{CS} (in) "Active Low Chip Select Pin.", 24 VL (power) "Voltage Supply for Readback Function. Can be left open circuit if not used.", 25 AVDD (power) "Positive Analog Supply Pin. Voltage ranges from +5 V to +15 V.", 26 VOUTD (out) "Buffered Analog Output Voltage of DAC D.", 27 VOUTC (out) "Buffered Analog Output Voltage of DAC C.", 28 VREFN (in) "Negative DAC Reference Input. The voltage applied to this pin defines the zero-scale output voltage. Allowable range is AVSS to VREFP - 2.5 V."

## AD5725ARSZ-REEL
designator U?
12-Bit Voltage Output Digital-to-Analog Converter with Parallel Interface, -40 to +85 degC, RS-28, Pb-Free, Reel; Generic Part Number: AD5725; Manufacturer: Analog Devices; PartNumber: AD5725ARSZ-REEL; # DAC Outputs: 4; Max V+: 15V; Op Pwr Diss: 270mW; Resolution (Bits): 12; Settling Time: 7µs; Single Supply: Yes; DatasheetVersion: Rev.A; PackageVersion: 060106-A; PackageReference: RS-28; PackageDescription: 28-Lead Shrink Small Outline Package [SSOP]; Supplier 1: Digi-Key; Supplier Part Number 1: AD5725ARSZ-REELTR-ND; Supplier 2: Digi-Key; Supplier Part Number 2: AD5725ARSZ-REELCT-ND; Supplier 3: Digi-Key; Supplier Part Number 3: AD5725ARSZ-REELDKR-ND; Supplier 4: Mouser; Supplier Part Number 4: 584-AD5725ARSZ-R; Packing: Reel; RoHS: Y; Mounting Technology: Surface Mount; Code_JEDEC: MO-150-AH; ComponentLink1Description: Manufacturer URL; ComponentLink1URL: http://www.analog.com/en/index.html; ComponentLink2Description: Datasheet; ComponentLink2URL: http://www.analog.com/static/imported-files/data_sheets/AD5725.pdf; ComponentLink3Description: Package Specification; ComponentLink3URL: http://www.analog.com/static/imported-files/packages/32122249223724RS_28.pdf; ComponentLink4Description: Product URL; ComponentLink4URL: http://www.analog.com/en/digital-to-analog-converters/da-converters/ad5725/products/product.html
footprint RS-28_N (SOP, 28-Leads, Body 10.2x5.3mm, Pitch 0.65mm, IPC Medium Density)
footprint RS-28_L (SOP, 28-Leads, Body 10.2x5.3mm, Pitch 0.65mm, IPC High Density)
footprint RS-28_M (SOP, 28-Leads, Body 10.2x5.3mm, Pitch 0.65mm, IPC Low Density)
pins: 1 VREFP (in) "Positive DAC Reference Input. The voltage applied to this pin defines the full-scale output voltage. Allowable range is AVDD - 2.5 V to VREFN + 2.5 V.", 2 VOUTB (out) "Buffered Analog Output Voltage of DAC B.", 3 VOUTA (out) "Buffered Analog Output Voltage of DAC A.", 4 AVSS (power) "Negative Analog Supply Pin. Voltage ranges from 0 V to -15 V.", 5 DGND (power) "Digital Ground Pin.", 6 ~{CLR} (in) "Active Low Input. Sets input registers and DAC registers to midscale (0x800) for the AD5725.", 7 ~{LDAC} (in) "Active Low Load DAC Input.", 8 DB0 (io) "Data Bit 0 (LSB).", 9 DB1 (io) "Data Bit 1.", 10 DB2 (io) "Data Bit 2.", 11 DB3 (io) "Data Bit 3.", 12 DB4 (io) "Data Bit 4.", 13 DB5 (io) "Data Bit 5.", 14 DB6 (io) "Data Bit 6.", 15 DB7 (io) "Data Bit 7.", 16 DB8 (io) "Data Bit 8.", 17 DB9 (io) "Data Bit 9.", 18 DB10 (io) "Data Bit 10.", 19 DB11 (io) "Data Bit 11 (MSB).", 20 R/~{W} (in) "Read/Write Pin. Active low to write data to DAC; Active high to read back previous data at data bit pins with VL connected to +5 V.", 21 A1 (in) "Address Bit 1.", 22 A0 (in) "Address Bit 0.", 23 ~{CS} (in) "Active Low Chip Select Pin.", 24 VL (power) "Voltage Supply for Readback Function. Can be left open circuit if not used.", 25 AVDD (power) "Positive Analog Supply Pin. Voltage ranges from +5 V to +15 V.", 26 VOUTD (out) "Buffered Analog Output Voltage of DAC D.", 27 VOUTC (out) "Buffered Analog Output Voltage of DAC C.", 28 VREFN (in) "Negative DAC Reference Input. The voltage applied to this pin defines the zero-scale output voltage. Allowable range is AVSS to VREFP - 2.5 V."